# EAGLE library part PUSHSWITCH (library lipo)
TOGGLE SWITCH distributor RS Components
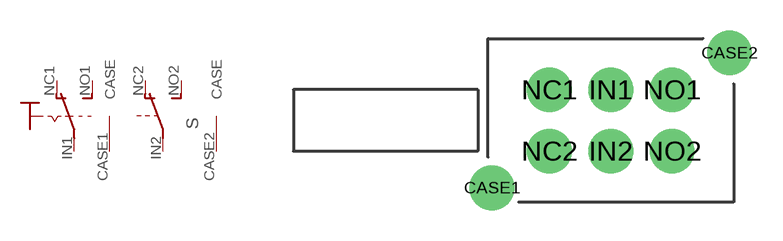
[diagram p4: symbol with the pads of PUSHSWITCH; footprint PUSHSWITCH]

Designator prefix S; gates B=U2 1=KS-U-

## PUSHSWITCH  [PUSHSWITCH]
CASE1  1:CASE  pas
CASE2  B:CASE  pas
IN1  1:IN  pas
IN2  B:IN  pas
NC1  1:NC  pas
NC2  B:NC  pas
NO1  1:NO  pas
NO2  B:NO  pas

## Footprint PUSHSWITCH (pad centres in mm)
TOGGLE SWITCH distributor RS Components
drill 1.4 pad 2.184: CASE1 -5.8,-3.3; CASE2 5.8,3.3
drill 1.3 pad 2.184: IN1 0,1.5; IN2 0,-1.5; NC1 -3,1.5; NC2 -3,-1.5; NO1 3,1.5; NO2 3,-1.5